# Altium footprint library SOIC127P700X220-4N.PcbLib: 1 footprints
Each footprint in its own frame and in the unit in brackets; x right, y up, seen from the top. Pads: shape width x height; smd on the part's side, far side on the other; paste and mask are expansions set on the pad; w line width, h text height; cw(c..) or ccw(c..) is an arc to the next point about the centre after c.
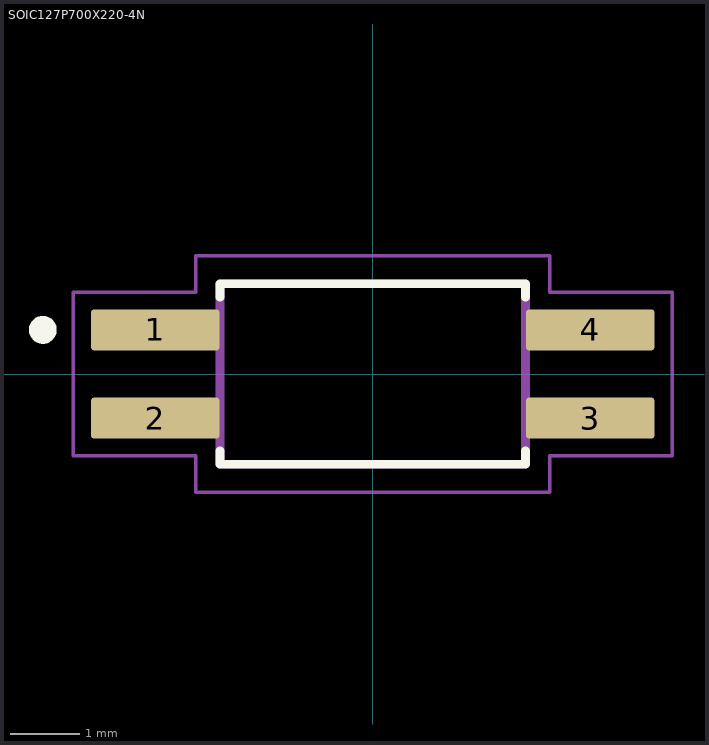
[diagram p0: the footprint, top view; thin cyan lines are the x and y axes]

## SOIC127P700X220-4N [mm]
pads (4):
  rrect15% 1.85x0.59 smd: 1(-3.13,0.635) 2(-3.13,-0.635) 3(3.13,-0.635) 4(3.13,0.635)
Top Overlay:
  circle w0.2: c-4.75,0.635 r0.1
  lines w0.127: -2.2,-1.11 -2.2,-1.3 2.2,-1.3 2.2,-1.11 ; -2.2,1.11 -2.2,1.3 2.2,1.3 2.2,1.11
Assembly Top:
  circle w0.2: c-3.5,0.635 r0.1
  lines w0.127: -2.2,-1.3 2.2,-1.3 2.2,1.3 -2.2,1.3 -2.2,-1.3
Top Courtyard:
  lines w0.05: -4.31,-1.18 -2.55,-1.18 -2.55,-1.7 2.55,-1.7 2.55,-1.18 4.31,-1.18 4.31,1.18 2.55,1.18 2.55,1.7 -2.55,1.7 -2.55,1.18 -4.31,1.18 -4.31,-1.18
3D body "SOIC-4.step": height 2.01, standoff -0.12, extent -3.5,-1.3 3.5,1.3